# Altium footprint library Standard.PcbLib: 34 footprints (part 1 of 3)
Each footprint in its own frame and in the unit in brackets; x right, y up, seen from the top. Pads: shape width x height; smd on the part's side, far side on the other; paste and mask are expansions set on the pad; w line width, h text height; cw(c..) or ccw(c..) is an arc to the next point about the centre after c.
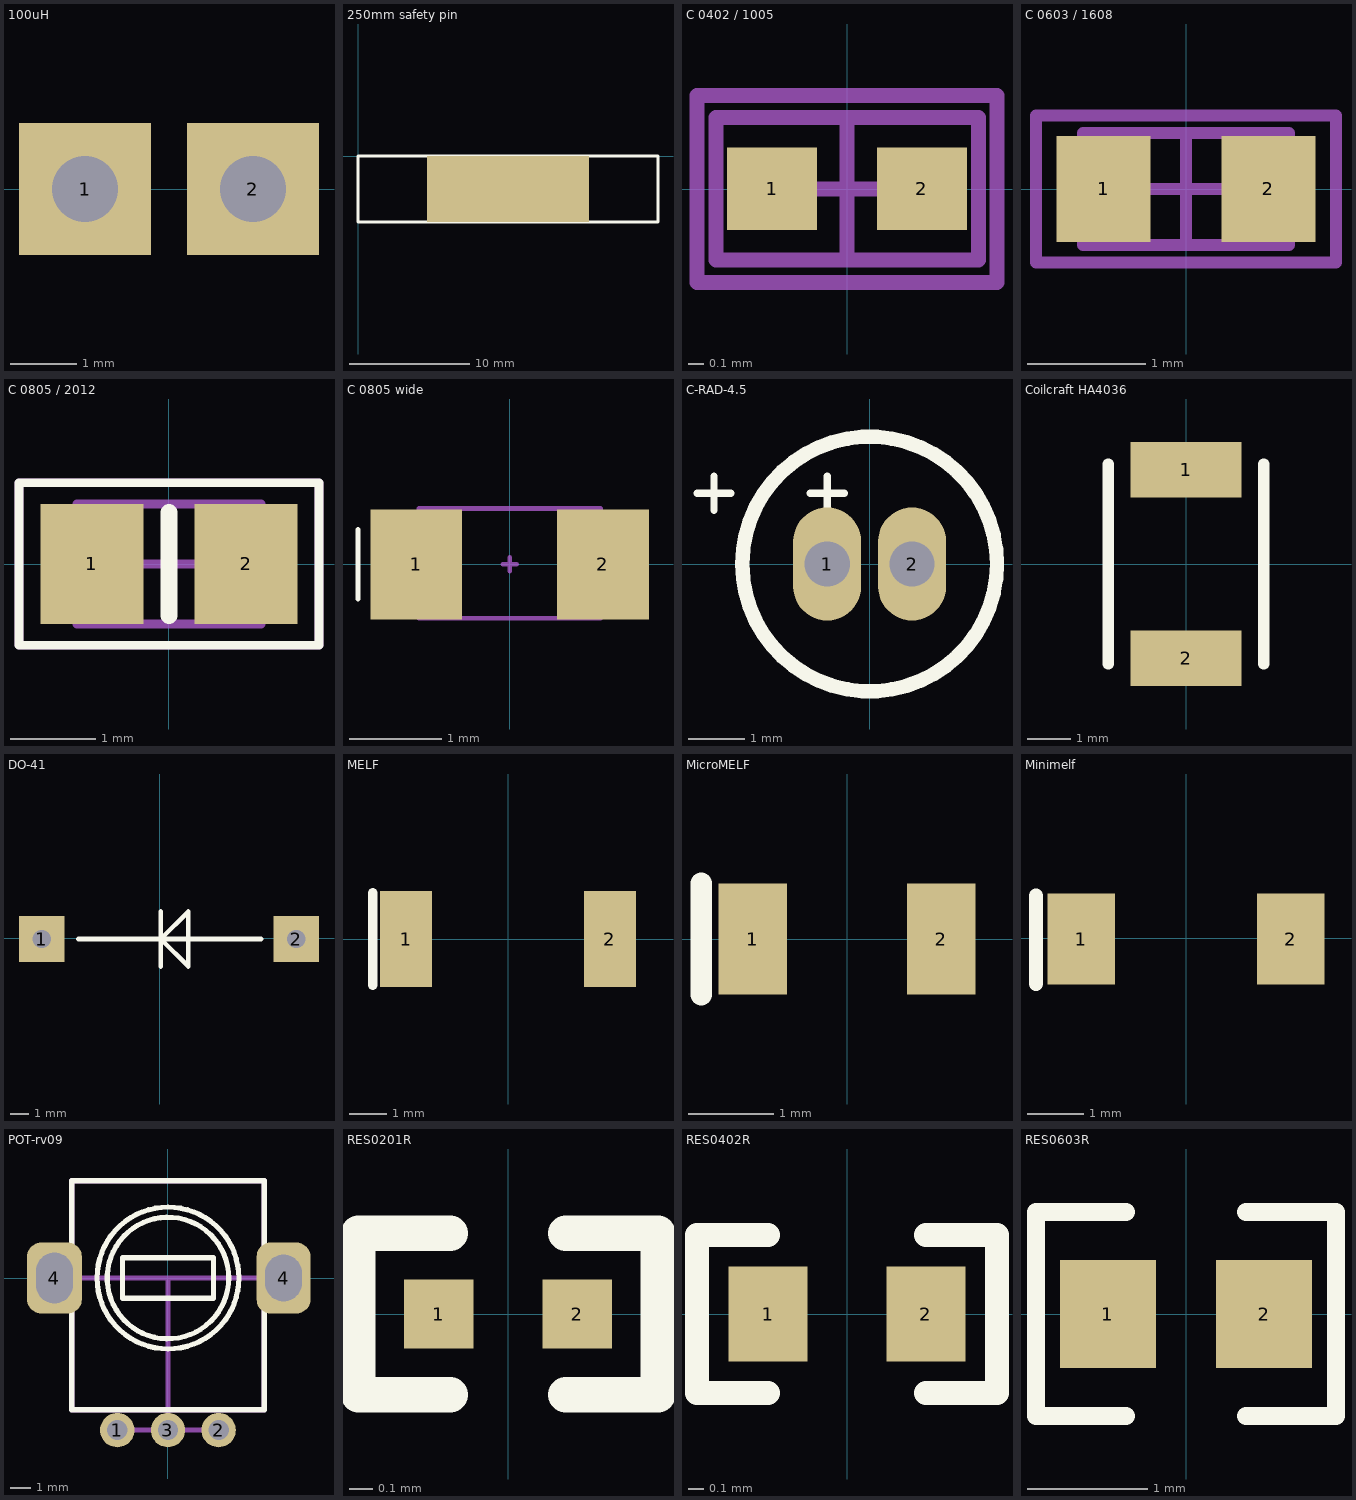
[diagram p0: the footprints below, top view; thin cyan lines are the x and y axes]

## 100uH [mm]
pads (2):
  rect 2x2 hole 1: 1(2.54,0) 2(5.08,0)
3D body "RES-0.125W-V-MF.stp": height 7.46, standoff -1.5, extent 1.49,-1.034 5.303,1.034

## 250mm safety pin [mm]
pads (1):
  rect 13.5x5.5 smd: ""(12.5,-2.75)
Top Overlay:
  lines w0.25: 0,-5.5 0,0 25,0 25,-5.5 0,-5.5

## C 0402 / 1005 [mm] "Capacitor 0402 / 1005 (1.0 x 0.5 mm)"
pads (2):
  rect 0.6x0.55 smd: 1(-0.5,0) 2(0.5,0)
Mechanical 13:
  lines w0.1: -0.875,-0.475 -0.875,0.475 0.875,0.475 0.875,-0.475 -0.875,-0.475
Mechanical 15:
  lines w0.1: -0.475,0 0.475,0 ; 0,-0.475 0,0.475 ; -1,-0.625 -1,0.625 1,0.625 1,-0.625 -1,-0.625
3D body "User Library-0402(1005M) Cap.step": height 0.51, standoff 0, extent -0.508,-0.254 0.508,0.254

## C 0603 / 1608 [mm] "Capacitor 0603 / 1608 (1.6 x 0.8 mm)"
pads (2):
  rect 0.8x0.9 smd: 1(-0.7,0) 2(0.7,0)
Mechanical 13:
  lines w0.1: -0.875,-0.475 -0.875,0.475 0.875,0.475 0.875,-0.475 -0.875,-0.475
Mechanical 15:
  lines w0.1: -0.475,0 0.475,0 ; 0,-0.475 0,0.475 ; -1.275,-0.625 -1.275,0.625 1.275,0.625 1.275,-0.625 -1.275,-0.625
3D body "Capacitor 0603.step": height 0.3, standoff 0, extent -0.8,-0.4 0.8,0.4

## C 0805 / 2012 [mm] "Capacitor 0805 / 2012 (2.0 x 1.2 mm)"
height 1.3
pads (2):
  rect 1.2x1.4 smd: 1(-0.9,0) 2(0.9,0)
Top Overlay:
  lines w0.1: -1.75,-0.95 1.75,-0.95 1.75,0.95 -1.75,0.95 -1.75,-0.95
  lines w0.2: 0,-0.6 0,0.6
Mechanical 13:
  lines w0.1: -1.075,-0.7 1.075,-0.7 1.075,0.7 -1.075,0.7 -1.075,-0.7
Mechanical 15:
  lines w0.1: -0.5,0 0.5,0 ; 0,-0.5 0,0.5 ; -1.75,-0.95 1.75,-0.95 1.75,0.95 -1.75,0.95 -1.75,-0.95
3D body "Capacitor 0805.step": height 0.78, standoff 0, extent -1,-0.625 1,0.625

## C 0805 wide [mm]
pads (2):
  rect 1x1.2 smd mask+0.01: 1(-1.016,0) 2(1.016,0)
Top Overlay:
  lines w0.05: -1.651,-0.381 -1.651,0.381
Mechanical 13:
  lines w0.05: -0.991,-0.584 0.991,-0.584 0.991,0.61 -0.991,0.61 -0.991,-0.584
Mechanical 15:
  lines w0.05: -0.076,0 0.076,0 ; 0,-0.076 0,0.076
3D body "SW3dPS-0805 SMD Capacitor.STEP": height 0.78, standoff 0, extent -1,-0.625 1,0.625

## C-RAD-4.5 [mm]
pads (2):
  oval 1.2x2 hole 0.8: 1(-0.75,0) 2(0.75,0)
Top Overlay:
  circle w0.254: c0,0 r2.25
  lines w0.127: -3.05,1.25 -2.45,1.25 ; -2.75,0.95 -2.75,1.55 ; -1.05,1.25 -0.45,1.25 ; -0.75,0.95 -0.75,1.55
3D body "User Library-Cap electro 5x11x2mm.step": height 11.53, standoff -3.27, extent -2.525,-2.525 2.526,2.526

## Coilcraft HA4036 [mil]
height 104.72
pads (2):
  rect 100x50 smd: 1(0,85) 2(0,-85)
Top Overlay:
  lines w10: -70,-90 -70,90 ; 70,-90 70,90
3D body: height 124.02, standoff 0, extent -70,-90 70,90

## DO-41 [mm]
pads (2):
  rect 2.5x2.5 hole 1: 1(-6.45,-0.05) 2(7.45,-0.05)
Top Overlay:
  lines w0.254: -4.45,-0.05 5.55,-0.05 ; 0.05,-1.55 0.05,1.45 ; 0.05,-0.05 1.55,-1.55 1.55,-0.05 1.55,1.45 0.05,-0.05
3D body "DO-204AC-R.stp": height 7.99, standoff -2.5, extent -6.95,-1.846 7.916,1.746

## MELF [mm]
pads (2):
  rect 1.4x2.6 smd: 1(-2.75,0) 2(2.75,0)
Top Overlay:
  lines w0.254: -3.65,-1.25 -3.65,1.25
3D body "MELF.stp": height 2.59, standoff 0, extent -2.6,-1.3 2.6,1.295

## MicroMELF [mm]
pads (2):
  rect 0.8x1.3 smd: 1(-1.1,0) 2(1.1,0)
Top Overlay:
  lines w0.254: -1.7,-0.65 -1.7,0.65
3D body "MicroMELF-RED.stp": height 1.2, standoff 0, extent -1,-0.598 1,0.6

## Minimelf [mm]
pads (2):
  rect 1.2x1.6 smd: 1(-1.85,-0.013) 2(1.85,-0.013)
Top Overlay:
  lines w0.254: -2.65,-0.8 -2.65,0.75
3D body "MiniMELF-RED.stp": height 1.6, standoff 0, extent -1.85,-0.8 1.85,0.775

## POT-rv09 [mm] "https://ae01.alicdn.com/kf/HTB1c8yhLSzqK1RjSZPxq6A4tVXap.jpg"
pads (5):
  round 1.7 hole 1: 1(-2.5,-7.5) 2(2.5,-7.5) 3(0,-7.5)
  rrect50% 2.7x3.5 hole 2.5 slot 1.8 at 0 deg: 4(-5.6,0)
  rrect50% 2.65x3.5 hole 2.3 slot 1.8 at 0 deg: 4(5.7,0)
Top Overlay:
  circle w0.254: c0,0 r3
  circle w0.254: c0,0 r3.5
  lines w0.254: -4.75,-6.5 -4.75,4.8 0,4.8 4.75,4.8 4.75,0 4.75,-6.5 -4.75,-6.5 ; -2.25,-1 0,-1 2.25,-1 2.25,1 0,1 -2.25,1 -2.25,-1
Mechanical 1:
  lines w0.254: -5.65,0 0,0 ; -2.5,-7.5 2.5,-7.5 0,-7.5 0,0 ; 5.65,0 0,0 ; -4.75,-6.5 -4.75,0 ; -4.75,-6.5 -4.75,0 ; -4.75,-6.5 4.75,-6.5 4.75,0 4.75,4.8 0,4.8 -4.75,4.8 -4.75,0
3D body "Potentiometer.stp": height 26.6, standoff -3.5, extent -5.85,-7.6 5.85,7.25

## RES0201R [mm] "resistor 0201 reflow soldering"
pads (2):
  rect 0.3x0.3 smd paste+0 mask+0.075: 1(-0.3,0) 2(0.3,0)
Top Overlay:
  lines w0.152: -0.25,-0.35 -0.65,-0.35 -0.65,0.35 -0.25,0.35 ; 0.25,-0.35 0.65,-0.35 0.65,0.35 0.25,0.35
3D body "RES0201.stp": height 0.3, standoff 0, extent -0.3,-0.15 0.3,0.15

## RES0402R [mm] "resistor 0402 reflow soldering"
pads (2):
  rect 0.5x0.6 smd: 1(-0.5,0) 2(0.5,0)
Top Overlay:
  lines w0.152: -0.5,-0.5 -0.95,-0.5 -0.95,0.5 -0.5,0.5 ; 0.5,-0.5 0.95,-0.5 0.95,0.5 0.5,0.5
3D body "RES0402.stp": height 0.3, standoff 0, extent -0.5,-0.25 0.5,0.25

## RES0603R [mm] "resistor 0603 reflow soldering"
pads (2):
  rect 0.8x0.9 smd: 1(-0.65,0) 2(0.65,0)
Top Overlay:
  lines w0.152: -0.5,-0.85 -1.25,-0.85 -1.25,0.85 -0.5,0.85 ; 0.5,-0.85 1.25,-0.85 1.25,0.85 0.5,0.85
3D body "res0603.stp": height 0.45, standoff 0, extent -0.8,-0.4 0.8,0.4